# Altium schematic symbol library ESP32-C3FH4.SchLib: 1 symbol
Pins are listed as number, name and electrical type; pins without a type are passive.

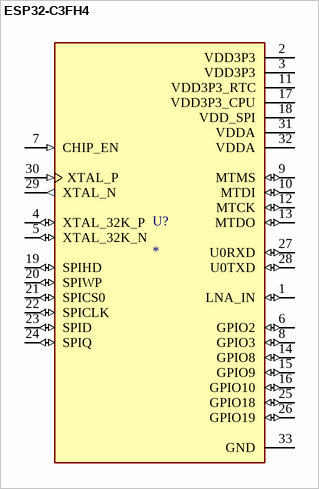
[diagram p0: symbol ESP32-C3FH4]

## ESP32-C3FH4
designator U?
MF: {'manufacturer': u'Espressif Systems'}; MP: ESP32-C3FH4; Value: *; Price: None; Package: None; Availability: Unavailable
footprint QFN50P500X500X90-33N
pins: 1 LNA_IN (io), 2 VDD3P3 (power), 3 VDD3P3 (power), 4 XTAL_32K_P (io), 5 XTAL_32K_N (io), 6 GPIO2 (io), 7 CHIP_EN (in), 8 GPIO3 (io), 9 MTMS (io), 10 MTDI (io), 11 VDD3P3_RTC (power), 12 MTCK (io), 13 MTDO (io), 14 GPIO8 (io), 15 GPIO9 (io), 16 GPIO10 (io), 17 VDD3P3_CPU (power), 18 VDD_SPI (power), 19 SPIHD (io), 20 SPIWP (io), 21 SPICS0 (io), 22 SPICLK (io), 23 SPID (io), 24 SPIQ (io), 25 GPIO18 (io), 26 GPIO19 (io), 27 U0RXD (io), 28 U0TXD (io), 29 XTAL_N (out), 30 XTAL_P (in), 31 VDDA (power), 32 VDDA (power), 33 GND (power)